# Altium footprint library BLE_THERMISTOR.PcbLib: 24 footprints (part 2 of 2)
Each footprint in its own frame and in the unit in brackets; x right, y up, seen from the top. Pads: shape width x height; smd on the part's side, far side on the other; paste and mask are expansions set on the pad; w line width, h text height; cw(c..) or ccw(c..) is an arc to the next point about the centre after c.
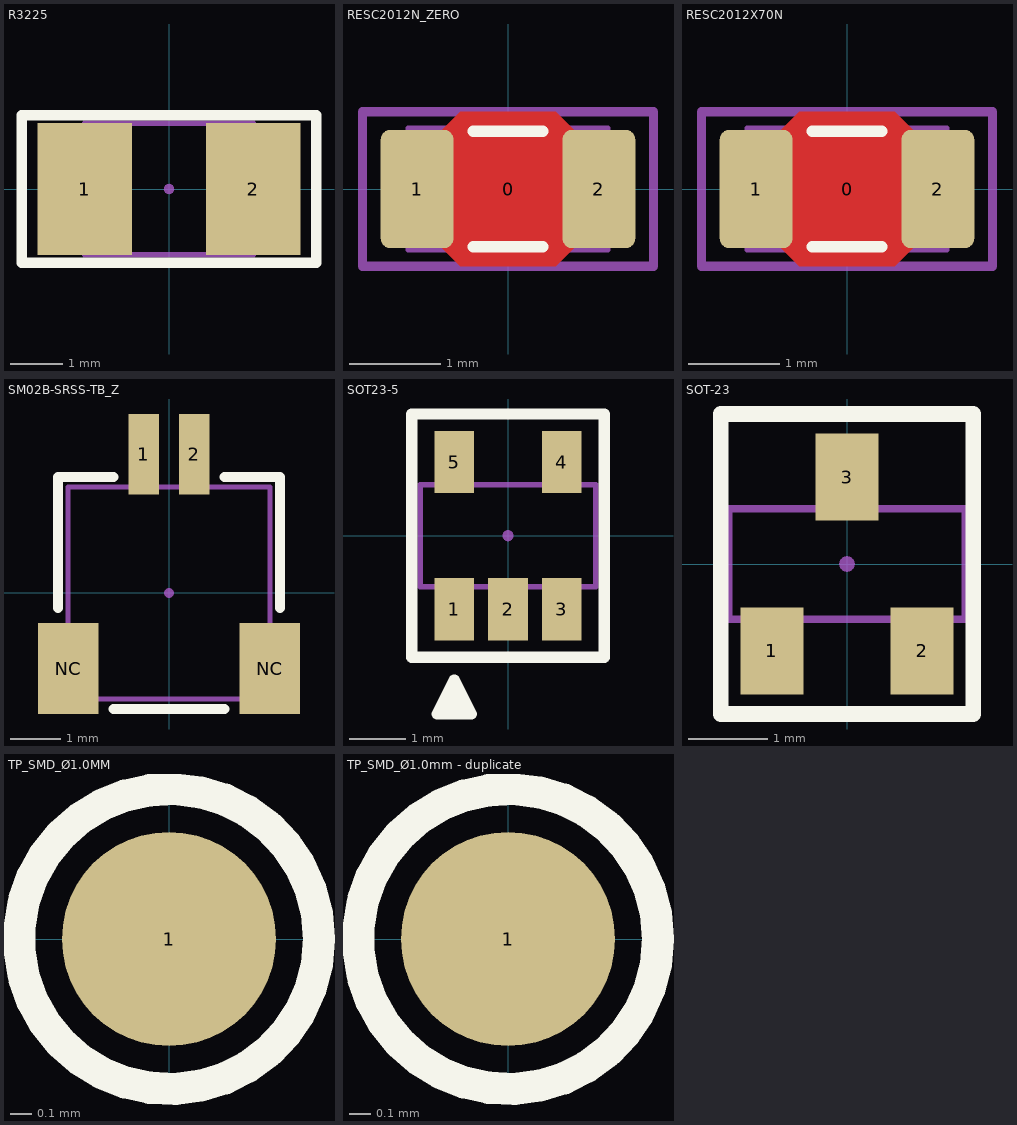
[diagram p1: the footprints below, top view; thin cyan lines are the x and y axes]

## R3225 [mm]
pads (3):
  rect 1.8x2.5 smd paste+0 mask+0.05: 1(-1.6,0) 2(1.6,0)
  round 0.2 on Mech4 paste-10 mask-10: ""(0,0)
Top Overlay:
  lines w0.2: -2.8,-1.4 -2.8,1.4 2.8,1.4 2.8,-1.4 -2.8,-1.4
Mechanical 4:
  lines w0.1: -1.6,-1.25 -1.6,1.25 1.6,1.25 1.6,-1.25 -1.6,-1.25
3D body "R3225.STEP": height 0.55, standoff 0, extent -1.6,-1.25 1.6,1.25

## RESC2012N_ZERO [mm] "Chip Resistor, Body 2.0x1.2mm, 0805, IPC Medium Density"
height 0.7
pads (3):
  round 0.254 on Mech15: 0(0,0)
  rrect25% 0.8x1.3 smd: 1(-1,0) 2(1,0)
Top Layer:
  pour cut-out: -0.725,0.65 -0.525,0.85 0.525,0.85 0.725,0.65 0.725,-0.65 0.525,-0.85 -0.525,-0.85 -0.725,-0.65
Top Overlay:
  lines w0.127: -0.381,-0.635 0.381,-0.635 ; -0.381,0.635 0.381,0.635
Mechanical 13:
  lines w0.05: 0.6,-0.674 -0.6,-0.674 ; -0.6,-0.675 -0.6,0.675 -1.1,0.675 -1.1,-0.675 -0.6,-0.675 ; -0.6,-0.674 0.6,-0.674 ; 0.6,-0.675 0.6,0.675 ; 0.6,-0.675 1.1,-0.675 1.1,0.675 0.6,0.675 ; 0.6,0.674 -0.6,0.674 0.6,0.674
Mechanical 15:
  lines w0.1: -1.6,-0.85 1.6,-0.85 1.6,0.85 -1.6,0.85 -1.6,-0.85
3D body "RES 0805 (2012 metric).STEP": height 0.69, standoff -0.01, extent -1.1,-0.675 1.1,0.675

## RESC2012X70N [mm] "Chip Resistor, Body 2.0x1.2mm, EIA 0805, IPC Medium Density"
height 0.7
pads (3):
  round 0.254 on Mech15: 0(0,0)
  rrect25% 0.8x1.3 smd: 1(-1,0) 2(1,0)
Top Layer:
  pour cut-out: -0.725,0.65 -0.525,0.85 0.525,0.85 0.725,0.65 0.725,-0.65 0.525,-0.85 -0.525,-0.85 -0.725,-0.65
Top Overlay:
  lines w0.127: -0.381,-0.635 0.381,-0.635 ; -0.381,0.635 0.381,0.635
Mechanical 13:
  lines w0.05: 0.6,-0.674 -0.6,-0.674 ; -0.6,-0.675 -0.6,0.675 -1.1,0.675 -1.1,-0.675 -0.6,-0.675 ; -0.6,-0.674 0.6,-0.674 ; 0.6,-0.675 0.6,0.675 ; 0.6,-0.675 1.1,-0.675 1.1,0.675 0.6,0.675 ; 0.6,0.674 -0.6,0.674 0.6,0.674
Mechanical 15:
  lines w0.1: -1.6,-0.85 1.6,-0.85 1.6,0.85 -1.6,0.85 -1.6,-0.85
3D body "RES 0805 (2012 metric).STEP": height 0.69, standoff -0.01, extent -1.1,-0.675 1.1,0.675

## SM02B-SRSS-TB_Z [mm]
pads (5):
  rect 0.6x1.6 smd paste+0 mask+0.05: 1(-0.5,2.75) 2(0.5,2.75)
  rect 1.2x1.8 smd paste+0 mask+0.05: NC(-2,-1.5) NC(2,-1.5)
  round 0.2 on Mech4 paste-10 mask-10: ""(0,0)
Top Overlay:
  lines w0.2: -2.2,-0.3 -2.2,2.3 -1.1,2.3 ; -1.1,-2.3 1.1,-2.3 ; 1.1,2.3 2.2,2.3 2.2,-0.3
Mechanical 4:
  lines w0.1: -2,-2.1 -2,2.1 2,2.1 2,-2.1 -2,-2.1
3D body "SW3dPS-JST_SM02B-SRSS-TB.STEP": height 2.9, standoff -0.1, extent -1.978,-2.093 2.01,2.893

## SOT23-5 [mm]
pads (6):
  rect 0.7x1.1 smd paste+0 mask+0.05: 1(-0.95,-1.3) 2(0,-1.3) 3(0.95,-1.3) 4(0.95,1.3) 5(-0.95,1.3)
  round 0.2 on Mech4 paste-10 mask-10: ""(0,0)
Top Overlay:
  lines w0.2: -1.19,-3.05 -0.71,-3.05 ; -0.95,-3.15 -0.95,-2.55 ; -0.95,-2.55 -1.25,-3.15 -0.65,-3.15 -0.95,-2.55 ; -1.7,-2.15 -1.7,2.15 1.7,2.15 1.7,-2.15 -1.7,-2.15
Mechanical 4:
  lines w0.1: -1.55,-0.9 1.55,-0.9 1.55,0.9 -1.55,0.9 -1.55,-0.9
3D body "SOT23-5.STEP": height 1.21, standoff 0, extent -1.5,-1.4 1.5,1.4

## SOT-23 [mm]
height 6.35
pads (4):
  rect 0.8x1.1 smd paste+0 mask+0.05: 1(-0.95,-1.1) 2(0.95,-1.1) 3(0,1.1)
  round 0.2 on Mech4 paste-10 mask-10: ""(0,0)
Top Overlay:
  lines w0.2: -1.6,-1.9 1.6,-1.9 1.6,1.9 -1.6,1.9 -1.6,-1.9
Mechanical 4:
  lines w0.1: -1.5,-0.7 1.5,-0.7 1.5,0.7 -1.5,0.7 -1.5,-0.7
3D body "SOT23.STEP": height 1.1, standoff 0, extent -1.45,-1.15 1.45,1.35

## TP_SMD_Ø1.0MM [mm]
pads (1):
  round 1 smd paste-5: 1(0,0)
Top Overlay:
  circle w0.15: c0,0 r0.7

## TP_SMD_Ø1.0mm - duplicate [mm]
pads (1):
  round 1 smd paste-5: 1(0,0)
Top Overlay:
  circle w0.15: c0,0 r0.7